# EAGLE library part PCA9685 (library _allyourbase)
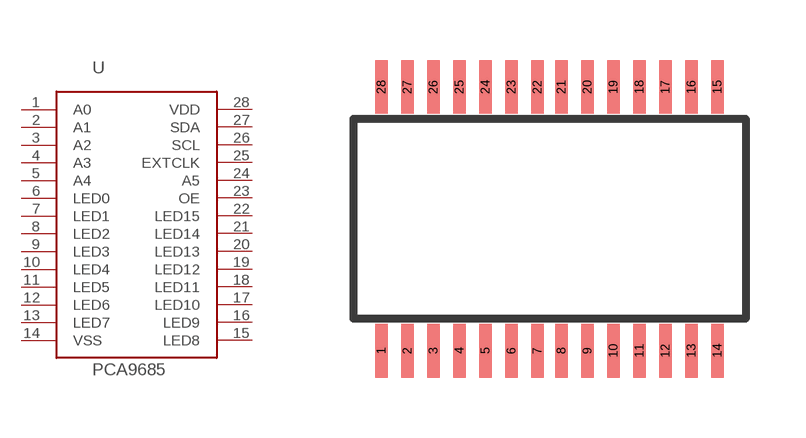
[diagram p0: symbol with the pads of TSSOP-28; footprint TSSOP-28]

Designator prefix -

## PCA9685TSSOP-28  [TSSOP-28]
1  A0
2  A1
3  A2
4  A3
5  A4
6  LED0
7  LED1
8  LED2
9  LED3
10  LED4
11  LED5
12  LED6
13  LED7
14  VSS
15  LED8
16  LED9
17  LED10
18  LED11
19  LED12
20  LED13
21  LED14
22  LED15
23  OE
24  A5
25  EXTCLK
26  SCL
27  SDA
28  VDD

## Footprint TSSOP-28 (pad centres in mm)
smd 0.32 x 1.35: 1 -4.2,-3.3; 2 -3.55,-3.3; 3 -2.9,-3.3; 4 -2.25,-3.3; 5 -1.6,-3.3; 6 -0.95,-3.3; 7 -0.3,-3.3; 8 0.3,-3.3; 9 0.95,-3.3; 10 1.6,-3.3; 11 2.25,-3.3; 12 2.9,-3.3; 13 3.55,-3.3; 14 4.2,-3.3; 15 4.2,3.3; 16 3.55,3.3; 17 2.9,3.3; 18 2.25,3.3; 19 1.6,3.3; 20 0.95,3.3; 21 0.3,3.3; 22 -0.3,3.3; 23 -0.95,3.3; 24 -1.6,3.3; 25 -2.25,3.3; 26 -2.9,3.3; 27 -3.55,3.3; 28 -4.2,3.3